# EAGLE library part STM32F407VGT6 (library ic)
ARM Microcontrollers - MCU ARM M4 1024 FLASH 168 Mhz 192kB SRAM
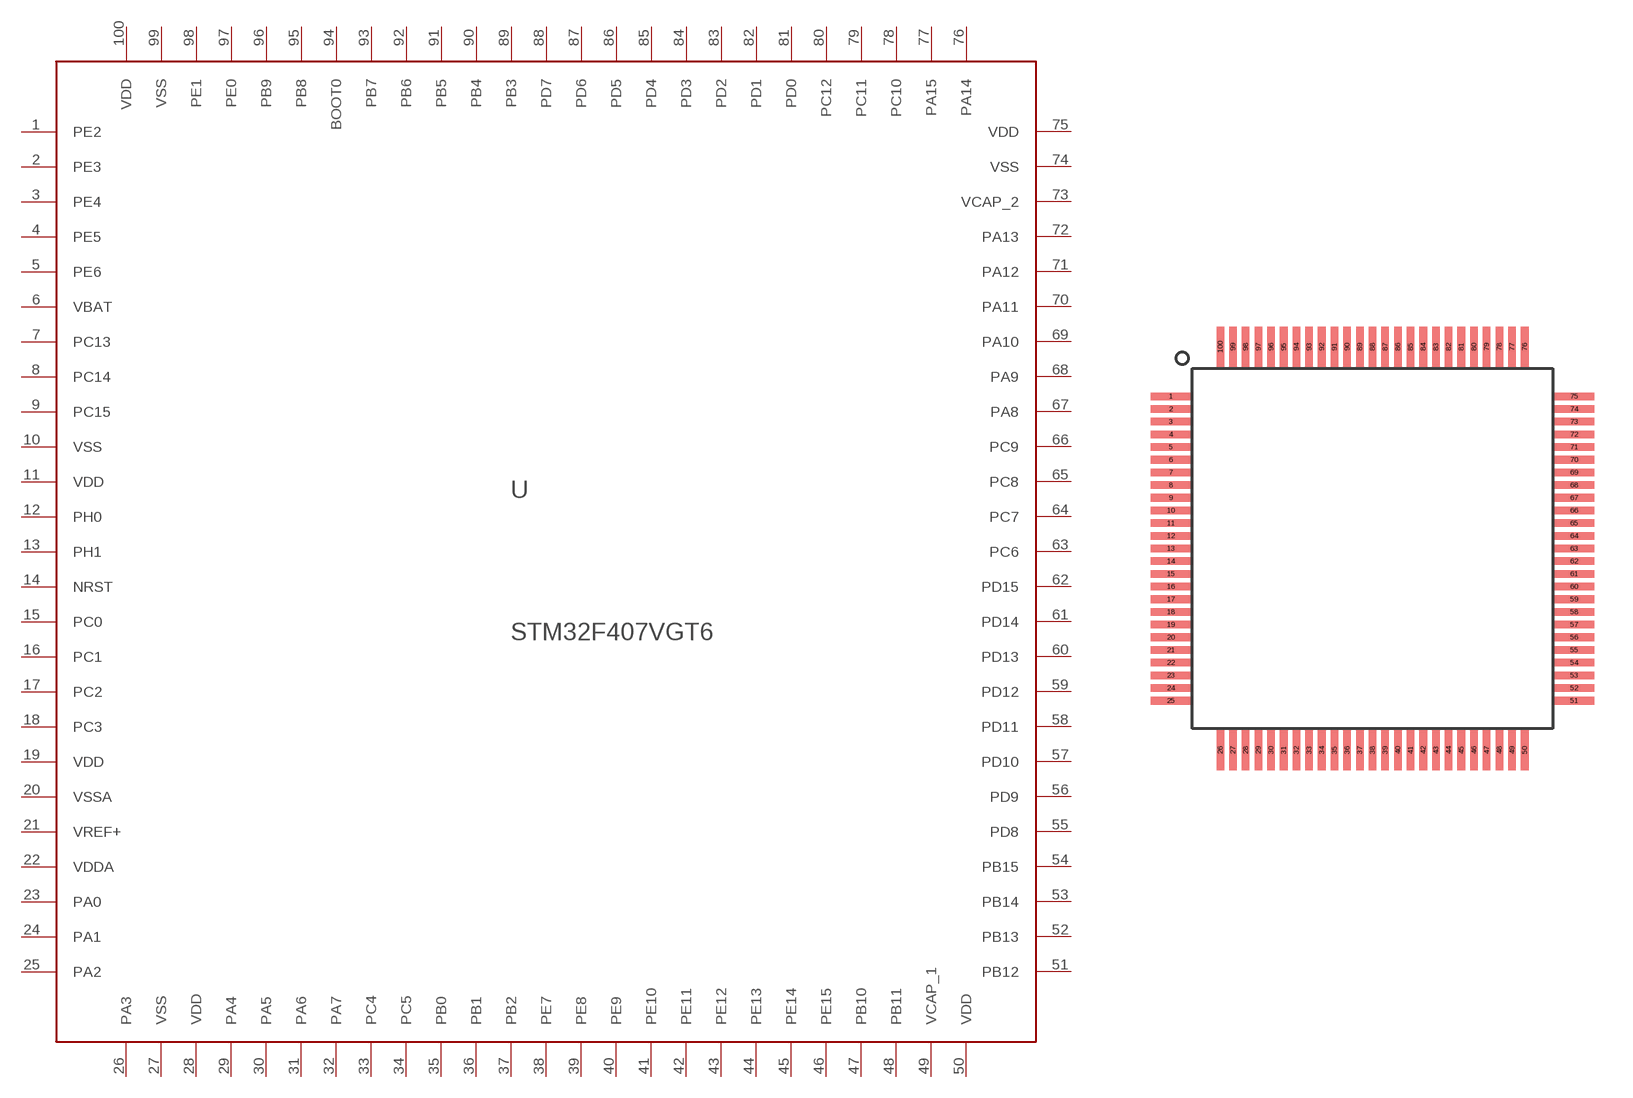
[diagram p12: symbol with the pads of STM32-LQFP100; footprint STM32-LQFP100]

Designator prefix U

## STM32F407VGT6  [STM32-LQFP100]
1  PE2
2  PE3
3  PE4
4  PE5
5  PE6
6  VBAT
7  PC13
8  PC14
9  PC15
10  VSS
11  VDD
12  PH0
13  PH1
14  NRST
15  PC0
16  PC1
17  PC2
18  PC3
19  VDD
20  VSSA
21  VREF+
22  VDDA
23  PA0
24  PA1
25  PA2
26  PA3
27  VSS
28  VDD
29  PA4
30  PA5
31  PA6
32  PA7
33  PC4
34  PC5
35  PB0
36  PB1
37  PB2
38  PE7
39  PE8
40  PE9
41  PE10
42  PE11
43  PE12
44  PE13
45  PE14
46  PE15
47  PB10
48  PB11
49  VCAP_1
50  VDD
51  PB12
52  PB13
53  PB14
54  PB15
55  PD8
56  PD9
57  PD10
58  PD11
59  PD12
60  PD13
61  PD14
62  PD15
63  PC6
64  PC7
65  PC8
66  PC9
67  PA8
68  PA9
69  PA10
70  PA11
71  PA12
72  PA13
73  VCAP_2
74  VSS
75  VDD
76  PA14
77  PA15
78  PC10
79  PC11
80  PC12
81  PD0
82  PD1
83  PD2
84  PD3
85  PD4
86  PD5
87  PD6
88  PD7
89  PB3
90  PB4
91  PB5
92  PB6
93  PB7
94  BOOT0
95  PB8
96  PB9
97  PE0
98  PE1
99  VSS
100  VDD

## Footprint STM32-LQFP100 (pad centres in mm)
smd 1.6 x 0.3: 1 -7.95,6; 2 -7.95,5.5; 3 -7.95,5; 4 -7.95,4.5; 5 -7.95,4; 6 -7.95,3.5; 7 -7.95,3; 8 -7.95,2.5; 9 -7.95,2; 10 -7.95,1.5; 11 -7.95,1; 12 -7.95,0.5; 13 -7.95,0; 14 -7.95,-0.5; 15 -7.95,-1; 16 -7.95,-1.5; 17 -7.95,-2; 18 -7.95,-2.5; 19 -7.95,-3; 20 -7.95,-3.5; 21 -7.95,-4; 22 -7.95,-4.5; 23 -7.95,-5; 24 -7.95,-5.5; 25 -7.95,-6; 51 7.95,-6; 52 7.95,-5.5; 53 7.95,-5; 54 7.95,-4.5; 55 7.95,-4; 56 7.95,-3.5; 57 7.95,-3; 58 7.95,-2.5; 59 7.95,-2; 60 7.95,-1.5; 61 7.95,-1; 62 7.95,-0.5; 63 7.95,0; 64 7.95,0.5; 65 7.95,1; 66 7.95,1.5; 67 7.95,2; 68 7.95,2.5; 69 7.95,3; 70 7.95,3.5; 71 7.95,4; 72 7.95,4.5; 73 7.95,5; 74 7.95,5.5; 75 7.95,6
smd 0.3 x 1.6: 26 -6,-7.95; 27 -5.5,-7.95; 28 -5,-7.95; 29 -4.5,-7.95; 30 -4,-7.95; 31 -3.5,-7.95; 32 -3,-7.95; 33 -2.5,-7.95; 34 -2,-7.95; 35 -1.5,-7.95; 36 -1,-7.95; 37 -0.5,-7.95; 38 0,-7.95; 39 0.5,-7.95; 40 1,-7.95; 41 1.5,-7.95; 42 2,-7.95; 43 2.5,-7.95; 44 3,-7.95; 45 3.5,-7.95; 46 4,-7.95; 47 4.5,-7.95; 48 5,-7.95; 49 5.5,-7.95; 50 6,-7.95; 76 6,7.95; 77 5.5,7.95; 78 5,7.95; 79 4.5,7.95; 80 4,7.95; 81 3.5,7.95; 82 3,7.95; 83 2.5,7.95; 84 2,7.95; 85 1.5,7.95; 86 1,7.95; 87 0.5,7.95; 88 0,7.95; 89 -0.5,7.95; 90 -1,7.95; 91 -1.5,7.95; 92 -2,7.95; 93 -2.5,7.95; 94 -3,7.95; 95 -3.5,7.95; 96 -4,7.95; 97 -4.5,7.95; 98 -5,7.95; 99 -5.5,7.95; 100 -6,7.95